# Altium schematic symbol library SCH - CRYSTALS - EPSON TG2016SMN-TCXO.SCHLIB: 1 symbol
Pins are listed as number, name and electrical type; pins without a type are passive.

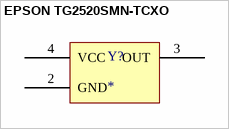
[diagram p0: symbol EPSON TG2520SMN-TCXO]

## EPSON TG2520SMN-TCXO
designator Y?
SMD TCXO
pins: 2 GND, 3 OUT, 4 VCC